# Altium schematic symbol library ucus_kayit.SchLib: 9 symbols
Pins are listed as number, name and electrical type; pins without a type are passive.

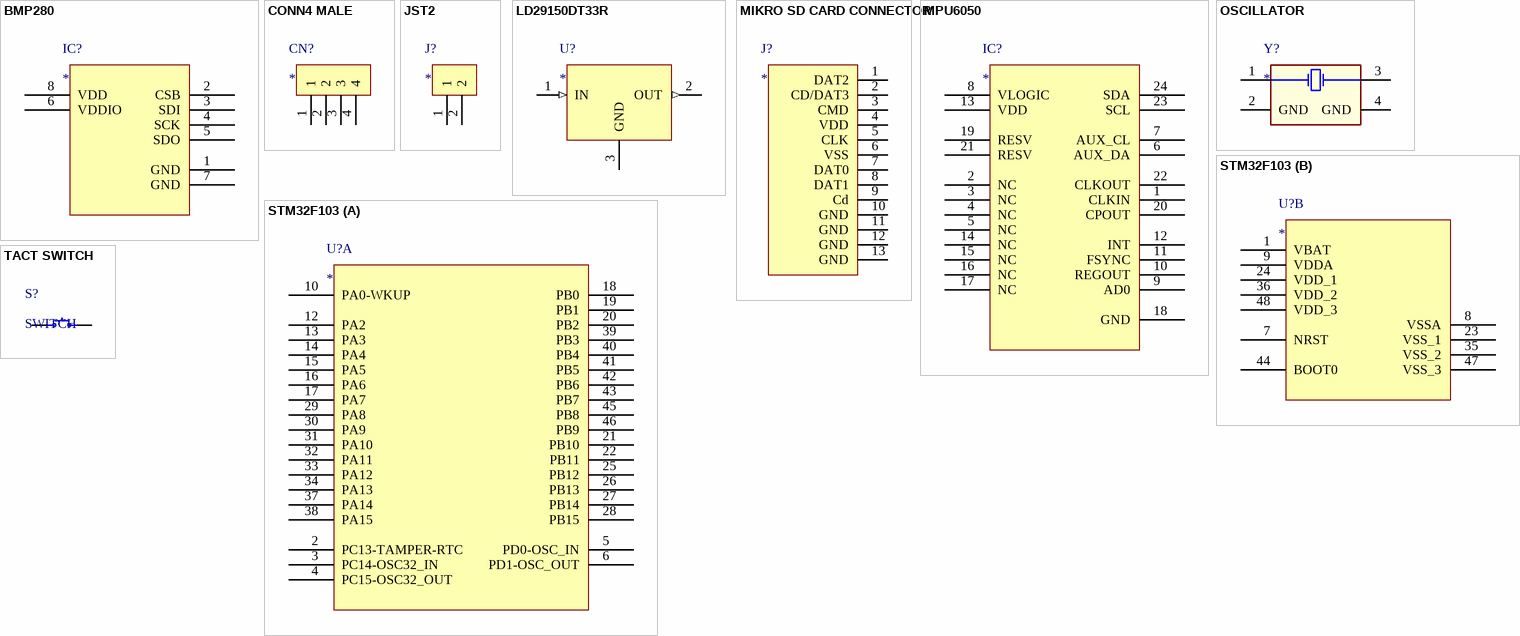
[diagram p0: symbols BMP280 to TACT SWITCH]

## BMP280
designator IC?
footprint BMP280
pins: 1 GND, 2 CSB, 3 SDI, 4 SCK, 5 SDO, 6 VDDIO, 7 GND, 8 VDD

## CONN4 MALE
designator CN?
4 PIN 2.54MM
footprint CONN4 MALE (4 PIN 2.54MM)
pins: 1, 2, 3, 4

## JST2
designator J?
2 PIN 2.54MM
footprint JST2 (2 PIN 2.54MM)
pins: 1, 2

## LD29150DT33R
designator U?
3V3
footprint TO252-3
pins: 1 IN (in), 2 OUT (out), 3 GND

## MIKRO SD CARD CONNECTOR
designator J?
footprint MICRO SD CARD CONNECTOR
pins: 1 DAT2, 2 CD/DAT3, 3 CMD, 4 VDD, 5 CLK, 6 VSS, 7 DAT0, 8 DAT1, 9 Cd, 10 GND, 11 GND, 12 GND, 13 GND

## MPU6050
designator IC?
IC-6050 SENSOR MOTION QFN24
footprint QFN (QFN, 24-Leads, Body 4,00x4,00mm, Pitch 0,50mm, Thermal Pad 2,70x2,60mm, IPC Medium Density)
pins: 1 CLKIN, 2 NC, 3 NC, 4 NC, 5 NC, 6 AUX_DA, 7 AUX_CL, 8 VLOGIC, 9 AD0, 10 REGOUT, 11 FSYNC, 12 INT, 13 VDD, 14 NC, 15 NC, 16 NC, 17 NC, 18 GND, 19 RESV, 20 CPOUT, 21 RESV, 22 CLKOUT, 23 SCL, 24 SDA

## OSCILLATOR
designator Y?
8MHZ 12.5pF; ComponentLink1Description: Özdisan; ComponentLink1URL: https://ozdisan.com/pasif-komponentler/kristaller-osilatorler-ve-rezanatorler/kristaller/RH100-8-000-12-5-20150-E
footprint OSCILLATOR (8MHZ 12.5pF)
pins: 1 (power) "Regulator Input Supply. Bypass IN to GND with a 1 uF or greater capacitor.", 2 GND (power) "Ground.", 3 "Enable Input. Drive EN high to turn on the regulator; drive it low to turn off the regulator. For automatic startup, connect EN to IN.", 4 GND "Connect a 1 nF or greater capacitor (10 nF is recommended) between BYP and GND to reduce the internal reference noise for low noise applications."

## STM32F103
designator U?
STM32F103C8T6 SMD LQFP-48 32-Bit 72 MHz Mikrodenetleyici; ComponentLink1Description: F1Depo; ComponentLink1URL: https://www.f1depo.com/urun/stm32f103c8t6-smd-lqfp-48-32-bit-72-mhz-mikrodenetleyici; ComponentLink2Description: Datasheet; ComponentLink2URL: https://www.st.com/resource/en/datasheet/stm32f103c8.pdf
footprint LQFP48 (TSQFP, 48-Leads, Body 7,00x7,00mm, Pitch 0,50mm, IPC Medium Density)
part A pins: 2 PC13-TAMPER-RTC, 3 PC14-OSC32_IN, 4 PC15-OSC32_OUT, 5 PD0-OSC_IN, 6 PD1-OSC_OUT, 10 PA0-WKUP, 11 PA1 hidden, 12 PA2, 13 PA3, 14 PA4, 15 PA5, 16 PA6, 17 PA7, 18 PB0, 19 PB1, 20 PB2, 21 PB10, 22 PB11, 25 PB12, 26 PB13, 27 PB14, 28 PB15, 29 PA8, 30 PA9, 31 PA10, 32 PA11, 33 PA12, 34 PA13, 37 PA14, 38 PA15, 39 PB3, 40 PB4, 41 PB5, 42 PB6, 43 PB7, 45 PB8, 46 PB9
part B pins: 1 VBAT, 7 NRST, 8 VSSA, 9 VDDA, 23 VSS_1, 24 VDD_1, 35 VSS_2, 36 VDD_2, 44 BOOT0, 47 VSS_3, 48 VDD_3

## TACT SWITCH
designator S?, comment SWITCH
SMD 2 Pin Switch; ComponentLink1Description: Datasheet; ComponentLink1URL: https://www.te.com/commerce/DocumentDelivery/DDEController?Action=srchrtrv&DocNm=1437566-3&DocType=Customer+Drawing&DocLang=English
footprint TE FSMSMTR
pins: 1, 2